# Altium footprint library USBPCBStick.PcbLib: 1 footprints
Each footprint in its own frame and in the unit in brackets; x right, y up, seen from the top. Pads: shape width x height; smd on the part's side, far side on the other; paste and mask are expansions set on the pad; w line width, h text height; cw(c..) or ccw(c..) is an arc to the next point about the centre after c.
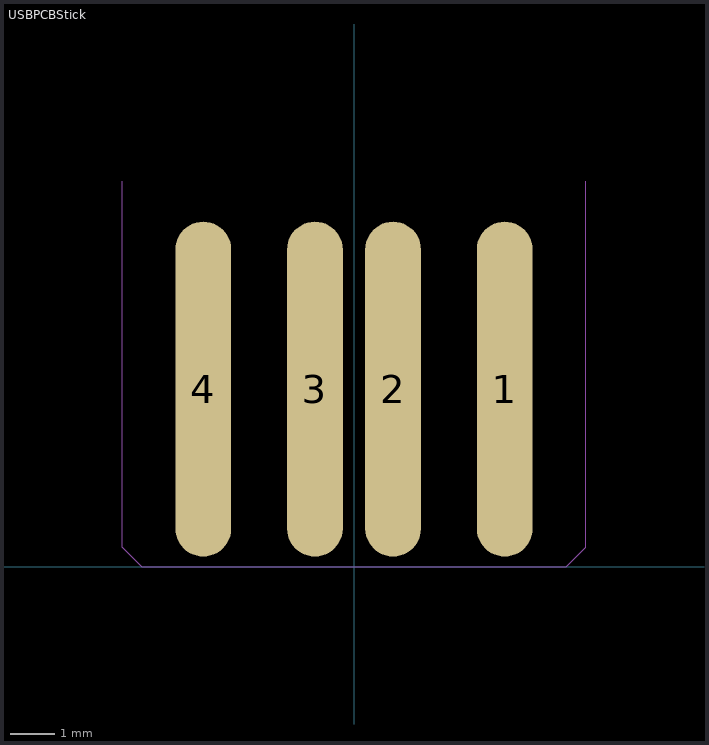
[diagram p0: the footprint, top view; thin cyan lines are the x and y axes]

## USBPCBStick [mil]
pads (4):
  oval 50x300 smd: 1(135,159) 2(35,159) 3(-35,159) 4(-135,159)
Mechanical 1:
  lines w1: -207.5,345 -207.5,17.5 -190,0 0,0 190,0 207.5,17.5 207.5,345